# Altium footprint library PcbLib1.PcbLib: 264 footprints (part 15 of 17)
Each footprint in its own frame and in the unit in brackets; x right, y up, seen from the top. Pads: shape width x height; smd on the part's side, far side on the other; paste and mask are expansions set on the pad; w line width, h text height; cw(c..) or ccw(c..) is an arc to the next point about the centre after c.
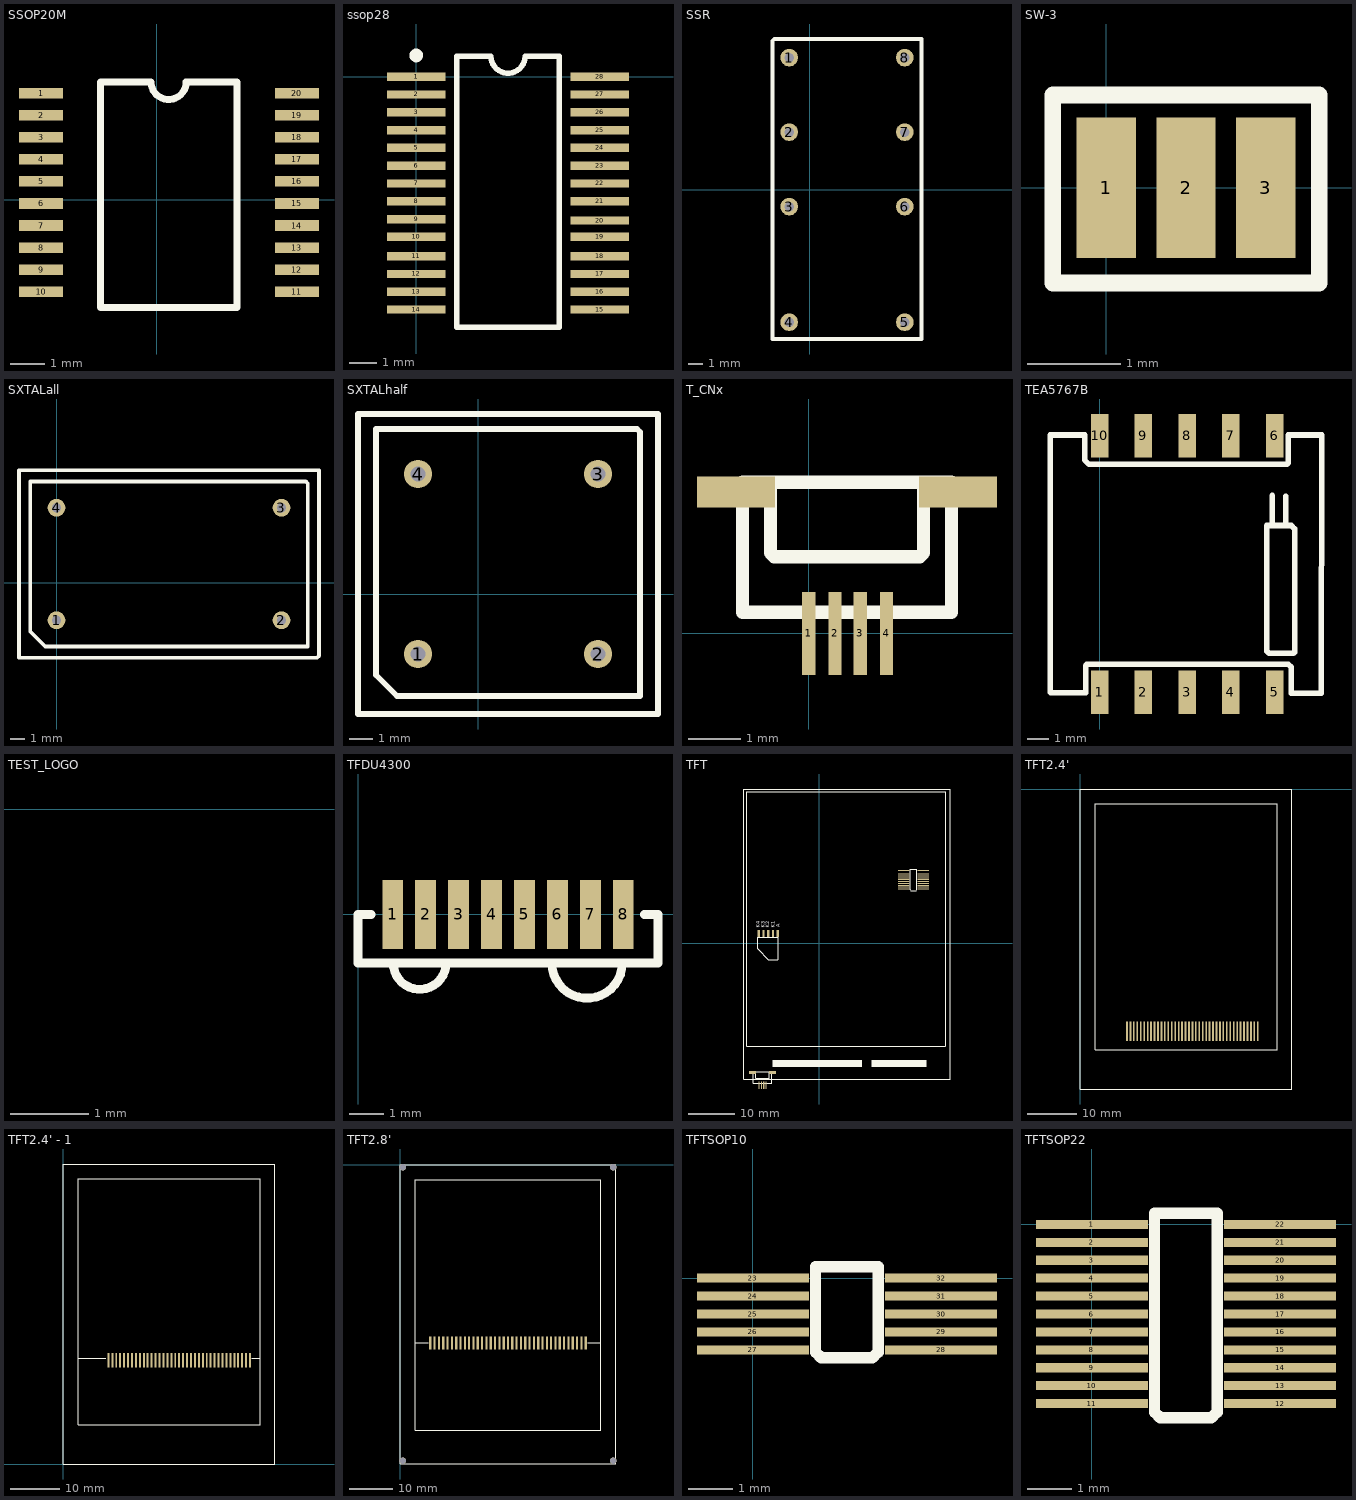
[diagram p14: the footprints below, top view; thin cyan lines are the x and y axes]

## SSOP20M [mil] "SOP20M"
height 59.06
pads (20):
  rect 50x12 smd: 1(-131,121) 2(-131,96) 3(-131,71) 4(-131,46) 5(-131,21) 6(-131,-4) 7(-131,-29) 8(-131,-54) 9(-131,-79) 10(-131,-104) 11(159,-104) 12(159,-79) 13(159,-54) 14(159,-29) 15(159,-4) 16(159,21) 17(159,46) 18(159,71) 19(159,96) 20(159,121)
Top Overlay:
  lines w7.87: -7,133.79 -63.76,133.79 -63.76,-122.11 90.97,-122.11 90.97,133.79 33,133.79 ; -6.39,133.79 ccw(c13.61,133.79) 33.61,133.79

## ssop28 [mm] "SSOP28"
height 6.86
pads (28):
  rect 2.15x0.305 smd: 1(0,0) 2(0,-0.65) 3(0,-1.3) 4(0,-1.95) 5(0,-2.6) 6(0,-3.25) 7(0,-3.9) 8(0,-4.55) 9(0,-5.2) 10(0,-5.85) 11(0,-6.552) 12(0,-7.202) 13(0,-7.852) 14(0,-8.502) 15(6.7,-8.502) 16(6.7,-7.852) 17(6.7,-7.202) 18(6.7,-6.552) 19(6.7,-5.85) 20(6.7,-5.252) 21(6.7,-4.55) 22(6.7,-3.9) 23(6.7,-3.25) 24(6.7,-2.6) 25(6.7,-1.95) 26(6.7,-1.3) 27(6.7,-0.65) 28(6.7,0)
Top Overlay:
  circle w0.25: c0,0.775 r0.125
  lines w0.2: 1.475,-9.144 1.475,0.75 2.725,0.75 ccw(c3.35,0.75) 3.975,0.75 5.225,0.75 5.225,-9.144 1.475,-9.144

## SSR [mm]
height 12
pads (8):
  round 1.2 hole 0.635: 1(-1.397,9.017) 2(-1.397,3.937) 3(-1.397,-1.143) 4(-1.397,-9.017) 5(6.477,-9.017) 6(6.477,-1.143) 7(6.477,3.937) 8(6.477,9.017)
Top Overlay:
  lines w0.254: -2.54,-10.16 7.62,-10.16 7.62,10.287 -2.413,10.287 -2.54,10.16 -2.54,-10.16

## SW-3 [mm] "SWITCH;PIN:10;25*50;"
pads (3):
  rect 0.635x1.5 smd: 1(0,0) 2(0.851,0) 3(1.702,0)
Top Overlay:
  lines w0.178: -0.572,-1.016 -0.572,0.991 2.273,0.991 2.273,-1.016 -0.572,-1.016

## SXTALall [mm] "SXTAL"
height 5
pads (4):
  round 1.2 hole 0.635: 1(0,-2.54) 2(15.24,-2.54) 3(15.24,5.08) 4(0,5.08)
Top Overlay:
  lines w0.254: -2.54,-5.08 -2.54,7.62 17.78,7.62 17.78,-4.953 17.653,-5.08 -2.54,-5.08 ; -1.778,-3.302 -1.778,6.858 16.891,6.858 17.018,6.731 17.018,-4.318 -0.762,-4.318 -1.778,-3.302

## SXTALhalf [mm] "SXTAL"
height 5
pads (4):
  round 1.2 hole 0.635: 1(-2.54,-2.54) 2(5.08,-2.54) 3(5.08,5.08) 4(-2.54,5.08)
Top Overlay:
  lines w0.254: -5.08,-5.08 7.62,-5.08 7.62,7.62 0,7.62 -5.08,7.62 -5.08,-5.08 ; -4.318,-3.429 -3.429,-4.318 6.858,-4.318 6.858,6.858 6.731,6.985 -4.318,6.985 -4.318,-3.429

## T_CNx [mil] "TOUCH_CN"
height 39.37
pads (6):
  rect 10x62.99 smd: 1(0,0) 2(20,0) 3(39,0) 4(59,0)
  rect 59.06x23.62 smd: ""(-55,107) ""(113,107)
Top Overlay:
  lines w10: -29,114.43 -29,61 -26,58 84,58 87,61 87,114.43 ; 107.48,16 -50,16 -50,114.43 108,114.43 108,16

## TEA5767B [mm] "TEA5767"
height 2
pads (10):
  rect 0.8x2 smd: 1(0,5.08) 2(2,5.08) 3(4,5.08) 4(6,5.08) 5(8,5.08) 6(8,16.8) 7(6,16.8) 8(4,16.8) 9(2,16.8) 10(0,16.8)
Top Overlay:
  lines w0.254: 7.899,12.7 7.899,14.072 ; 8.509,12.7 8.509,14.046 ; -2.261,5.08 -2.261,16.84 -0.686,16.84 -0.686,15.697 -0.483,15.494 8.56,15.494 8.636,15.57 8.636,16.84 10.16,16.84 10.16,16.637 10.135,5.029 8.763,5.029 8.763,6.223 8.636,6.35 -0.584,6.35 -0.635,6.299 -0.635,5.055 -2.235,5.055 -2.261,5.08 ; 7.645,6.96 7.645,12.7 8.763,12.7 8.915,12.548 8.915,6.909 8.865,6.858 7.747,6.858 7.645,6.96

## TEST_LOGO [mm]
Top Overlay:
  text "车载POS机控制板" at -12.827,-3.556 h3.81

## TFDU4300 [mm] "8.5mm*2.85mm;pin:0.95mm;"
height 2.4
pads (8):
  rect 0.6x2 smd: 1(1,0) 2(1.95,0) 3(2.9,0) 4(3.85,0) 5(4.8,0) 6(5.75,0) 7(6.7,0) 8(7.65,0)
Top Overlay:
  lines w0.254: 0.381,0 0,0 0,-1.397 8.65,-1.397 8.65,0 8.255,0 ; 1.016,-1.397 ccw(c1.778,-1.397) 2.54,-1.397 ; 5.588,-1.397 ccw(c6.604,-1.397) 7.62,-1.397

## TFT [mil] "TFTLCD_34"
height 196.85
pads (33):
  rect 98.43x8 smd: 1(710,615) 2(710,599.25) 3(710,583.5) 4(710,567.76) 5(710,552.01) 6(710,536.26) 7(710,520.51) 8(710,504.76) 9(710,489.02) 10(710,473.27) 11(710,457.52) 12(875.35,457.52) 13(875.35,473.27) 14(875.35,489.02) 15(875.35,504.76) 16(875.35,520.51) 17(875.35,536.26) 18(875.35,552.01) 19(875.35,567.76) 20(875.35,583.5) 21(875.35,599.25) 22(875.35,615)
  rect 19.68x59.05 smd: 23(-350,83.9) 24(-390,83.9) 26(-470,83.9) 27(-510,83.9)
  rect 19.68x59.06 smd: 25(-430,83.9)
  rect 10x62.99 smd: 28(-508,-1194) 29(-488,-1194) 30(-469,-1194) 31(-449,-1194)
  rect 59.06x23.62 smd: ""(-563,-1087) ""(-395,-1087)
Top Overlay:
  rectangle: -395,-1040 360,-980
  rectangle: 440,-1040 900,-980
  lines w10: -537,-1079.57 -537,-1133 -534,-1136 -424,-1136 -421,-1133 -421,-1079.57 ; -400.52,-1178 -558,-1178 -558,-1079.57 -400,-1079.57 -400,-1178 ; -350,-136.1 -430,-136.1 -520,-46.1 -520,53.9 -345,53.9 -345,-16.1 -345,-136.1 ; -635,-1145 1100,-1145 1100,-895 1100,900 1100,1300 -635,1300 -635,-1145 ; -610,-865.35 -610,1275 1065,1275 1065,-860.35 1060,-865.35 -610,-865.35 ; 765,450 765,625 820,625 820,450 815,445 770,445 765,450
  text "K4" at -500,130 h30
  text "K3" at -460,130 h30
  text "K2" at -420,130 h30
  text "K1" at -375,130 h30
  text "A" at -335,135 h30

## TFT2.4' [mm] "TFT,LCD,320*240,2.4',TOUCH,8/16bit"
height 5
pads (39):
  rect 0.35x4 smd: 1(9.5,-49.25) 2(10.2,-49.25) 3(10.9,-49.25) 4(11.6,-49.25) 5(12.3,-49.25) 6(13,-49.25) 7(13.7,-49.25) 8(14.4,-49.25) 9(15.1,-49.25) 10(15.8,-49.25) 11(16.5,-49.25) 12(17.2,-49.25) 13(17.9,-49.25) 14(18.6,-49.25) 15(19.3,-49.25) 16(20,-49.25) 17(20.7,-49.25) 18(21.4,-49.25) 19(22.1,-49.25) 20(22.8,-49.25) 21(23.5,-49.25) 22(24.2,-49.25) 23(24.9,-49.25) 24(25.6,-49.25) 25(26.3,-49.25) 26(27,-49.25) 27(27.7,-49.25) 28(28.4,-49.25) 29(29.1,-49.25) 30(29.8,-49.25) 31(30.5,-49.25) 32(31.2,-49.25) 33(31.9,-49.25) 34(32.6,-49.25) 35(33.3,-49.25) 36(34,-49.25) 37(34.7,-49.25) 38(35.4,-49.25) 39(36.1,-49.25)
Top Overlay:
  lines w0.254: 0,-61 0,0 43,0 43,-61 0,-61 ; 3.048,-53.048 3.048,-3.048 40.005,-3.048 40.005,-53.048 3.048,-53.048

## TFT2.4' - 1 [mm] "TFT,LCD,320*240,2.4',TOUCH,8/16bit,GENE"
height 5
pads (37):
  rect 0.4x3 smd: 1(9.173,21.082) 2(9.973,21.082) 3(10.773,21.082) 4(11.573,21.082) 5(12.373,21.082) 6(13.173,21.082) 7(13.973,21.082) 8(14.773,21.082) 9(15.573,21.082) 10(16.373,21.082) 11(17.173,21.082) 12(17.973,21.082) 13(18.773,21.082) 14(19.573,21.082) 15(20.373,21.082) 16(21.173,21.082) 17(21.973,21.082) 18(22.773,21.082) 19(23.573,21.082) 20(24.373,21.082) 21(25.173,21.082) 22(25.973,21.082) 23(26.773,21.082) 24(27.573,21.082) 25(28.373,21.082) 26(29.173,21.082) 27(29.973,21.082) 28(30.773,21.082) 29(31.573,21.082) 30(32.373,21.082) 31(33.173,21.082) 32(33.973,21.082) 33(34.773,21.082) 34(35.573,21.082) 35(36.373,21.082) 36(37.173,21.082) 37(37.973,21.082)
Top Overlay:
  lines w0.254: 3.175,21.463 8.636,21.463 ; 38.354,21.463 40.005,21.463 ; 0,0 0,61 43,61 43,0 0,0 ; 3.048,7.952 3.048,57.952 40.005,57.952 40.005,7.952 3.048,7.952

## TFT2.8' [mm] "TFT,LCD,320*240,2.8',TOUCH,8/16bit"
height 5
pads (41):
  rect 0.5x3 smd: 1(7,-41.375) 2(8,-41.375) 3(9,-41.375) 4(10,-41.375) 5(11,-41.375) 6(12,-41.375) 7(13,-41.375) 8(14,-41.375) 9(15,-41.375) 10(16,-41.375) 11(17,-41.375) 12(18,-41.375) 13(19,-41.375) 14(20,-41.375) 15(21,-41.375) 16(22,-41.375) 17(23,-41.375) 18(24,-41.375) 19(25,-41.375) 20(26,-41.375) 21(27,-41.375) 22(28,-41.375) 23(29,-41.375) 24(30,-41.375) 25(31,-41.375) 26(32,-41.375) 27(33,-41.375) 28(34,-41.375) 29(35,-41.375) 30(36,-41.375) 31(37,-41.375) 32(38,-41.375) 33(39,-41.375) 34(40,-41.375) 35(41,-41.375) 36(42,-41.375) 37(43,-41.375)
  round 1.5 hole 1.5: 38(49.375,-0.625) 39(0.625,-0.625) 40(49.375,-68.625) 41(0.625,-68.625)
Top Overlay:
  lines w0.254: 3.5,-41.275 6.477,-41.275 ; 43.461,-41.275 46.5,-41.275 ; 0,-69.3 0,0 50,0 50,-69.3 0,-69.3 ; 3.5,-61.6 3.5,-3.5 46.5,-3.5 46.5,-61.6 3.5,-61.6

## TFTSOP10 [mm]
pads (10):
  rect 2.5x0.203 smd: 23(0,0) 24(0,-0.4) 25(0,-0.8) 26(0,-1.2) 27(0,-1.6) 28(4.2,-1.6) 29(4.2,-1.2) 30(4.2,-0.8) 31(4.2,-0.4) 32(4.2,0)
Top Overlay:
  lines w0.254: 1.397,-1.651 1.524,-1.778 2.667,-1.778 2.794,-1.651 2.794,0.254 1.397,0.254 1.397,-1.651

## TFTSOP22 [mm]
pads (22):
  rect 2.5x0.203 smd: 1(0,0) 2(0,-0.4) 3(0,-0.8) 4(0,-1.2) 5(0,-1.6) 6(0,-2) 7(0,-2.4) 8(0,-2.8) 9(0,-3.2) 10(0,-3.6) 11(0,-4) 12(4.2,-4) 13(4.2,-3.6) 14(4.2,-3.2) 15(4.2,-2.8) 16(4.2,-2.4) 17(4.2,-2) 18(4.2,-1.6) 19(4.2,-1.2) 20(4.2,-0.8) 21(4.2,-0.4) 22(4.2,0)
Top Overlay:
  lines w0.254: 1.397,-4.191 1.397,0.254 2.794,0.254 2.794,-4.191 2.667,-4.318 1.524,-4.318 1.397,-4.191